# Altium footprint library 0603_Ceramic_Capacitor.PcbLib: 1 footprints
Each footprint in its own frame and in the unit in brackets; x right, y up, seen from the top. Pads: shape width x height; smd on the part's side, far side on the other; paste and mask are expansions set on the pad; w line width, h text height; cw(c..) or ccw(c..) is an arc to the next point about the centre after c.
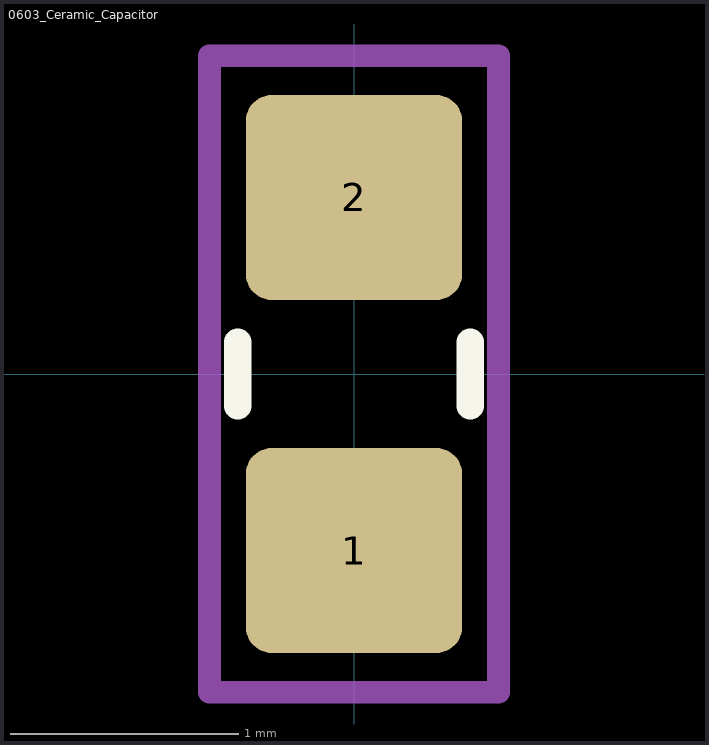
[diagram p0: the footprint, top view; thin cyan lines are the x and y axes]

## 0603_Ceramic_Capacitor [mm]
pads (2):
  rrect25% 0.95x0.9 smd: 1(0,-0.775) 2(0,0.775)
Top Overlay:
  lines w0.12: -0.51,-0.141 -0.51,0.141 ; 0.51,-0.141 0.51,0.141
Mechanical 1:
  lines w0.1: -0.635,-1.397 0.635,-1.397 0.635,1.397 -0.635,1.397 -0.635,-1.397
  text ".Designator" at -0.381,-0.066 h1
Top Courtyard:
  text "+" at -0.333,-0.5 h1
3D body "Ceramic_Capacitor_0603_h32mil.step": height 0.81, standoff 0.01, extent -0.4,-0.8 0.4,0.8